# Altium footprint library CAPAE830X1250N.PcbLib: 1 footprints
Each footprint in its own frame and in the unit in brackets; x right, y up, seen from the top. Pads: shape width x height; smd on the part's side, far side on the other; paste and mask are expansions set on the pad; w line width, h text height; cw(c..) or ccw(c..) is an arc to the next point about the centre after c.
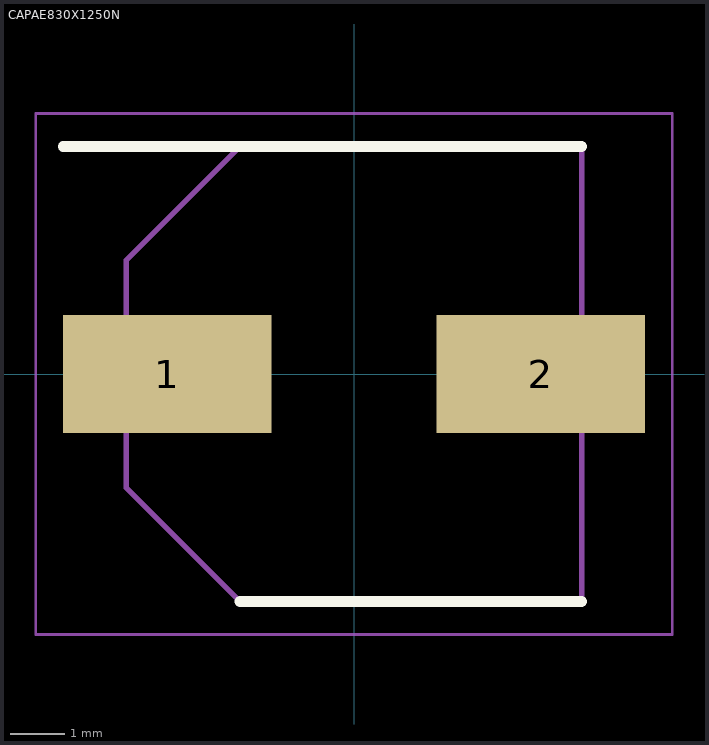
[diagram p0: the footprint, top view; thin cyan lines are the x and y axes]

## CAPAE830X1250N [mm]
pads (2):
  rect 3.8x2.15 smd: 1(-3.4,0) 2(3.4,0)
Top Overlay:
  lines w0.2: -5.3,4.15 4.15,4.15 ; -2.075,-4.15 4.15,-4.15
Mechanical 15:
  lines w0.1: -4.15,-2.075 -4.15,2.075 -2.075,4.15 4.15,4.15 4.15,-4.15 -2.075,-4.15 -4.15,-2.075
Mechanical 20:
  lines w0.05: -5.8,-4.75 5.8,-4.75 5.8,4.75 -5.8,4.75 -5.8,-4.75